# Altium footprint library NewSpeedRadar_Board.PcbLib: 49 footprints (part 3 of 4)
Each footprint in its own frame and in the unit in brackets; x right, y up, seen from the top. Pads: shape width x height; smd on the part's side, far side on the other; paste and mask are expansions set on the pad; w line width, h text height; cw(c..) or ccw(c..) is an arc to the next point about the centre after c.
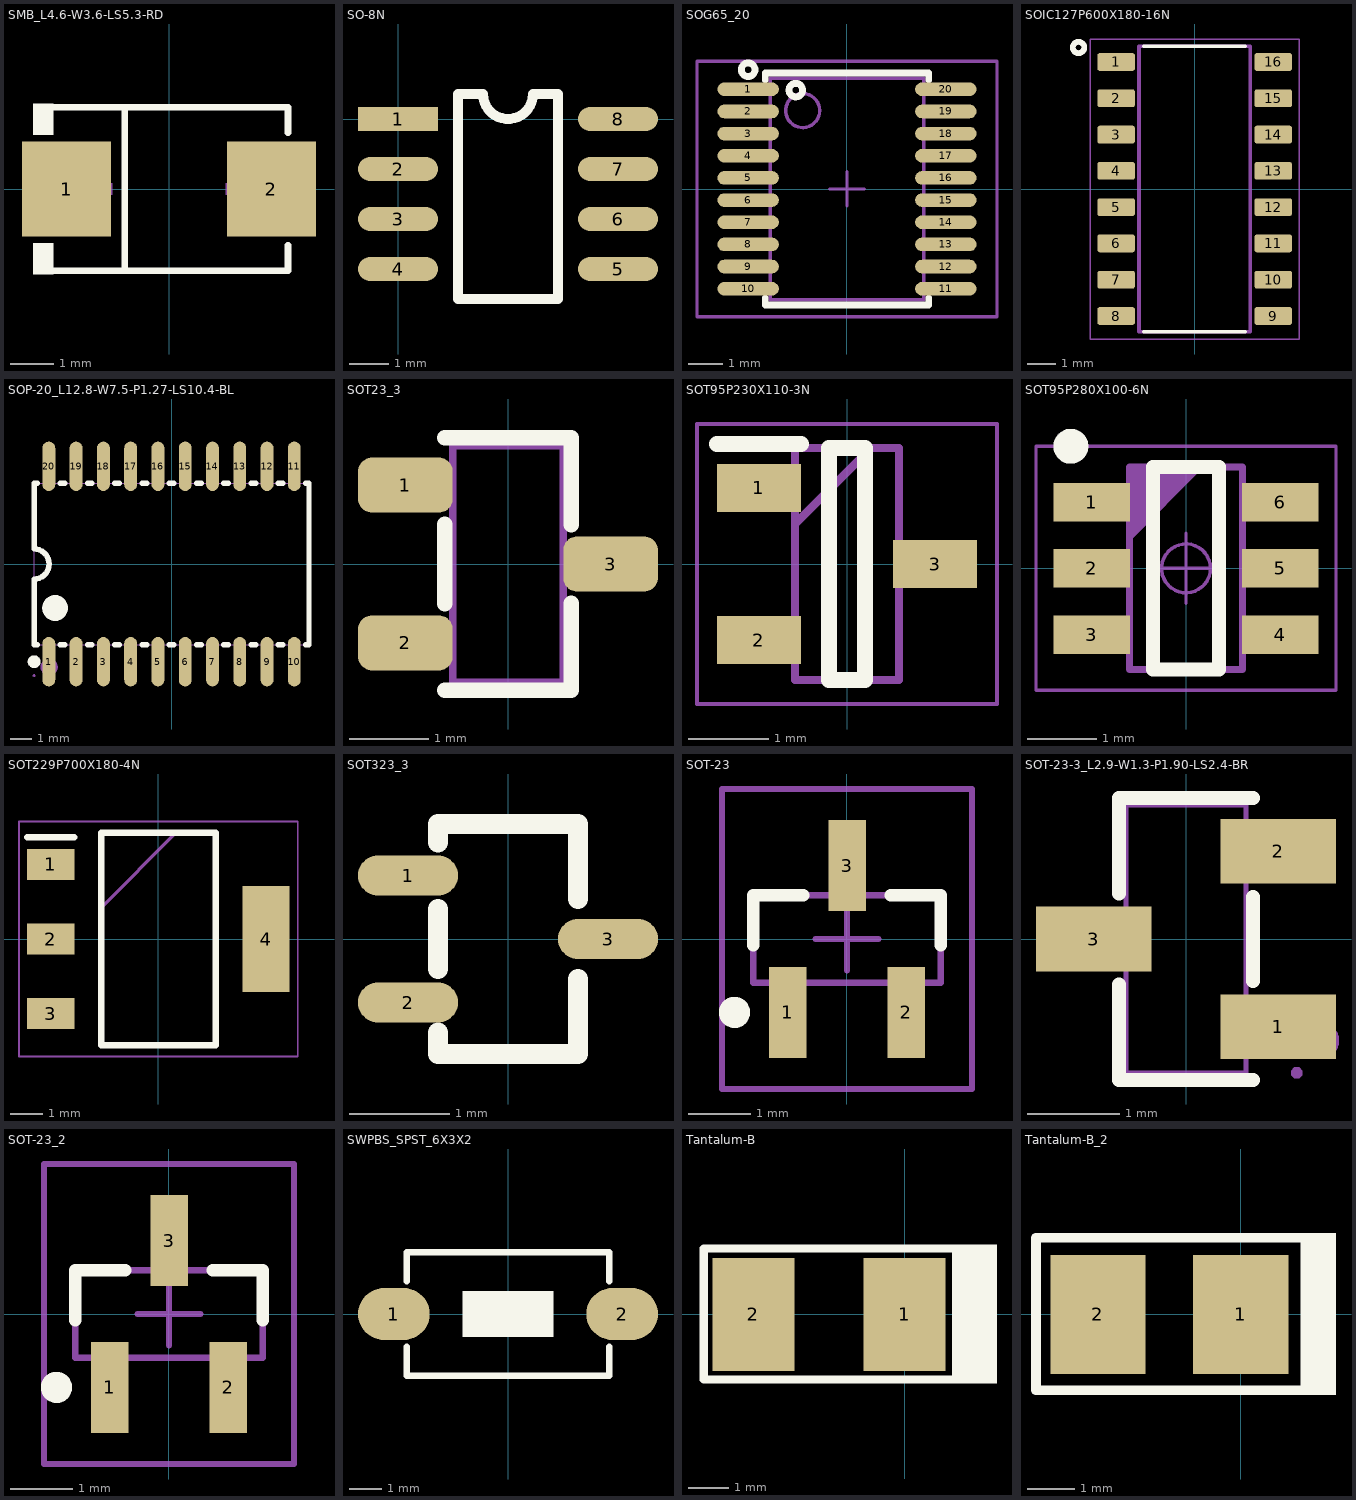
[diagram p2: the footprints below, top view; thin cyan lines are the x and y axes]

## SMB_L4.6-W3.6-LS5.3-RD [mm]
pads (2):
  rect 2.047x2.192 smd paste+0 mask+0.051: 1(-2.361,0) 2(2.361,0)
Top Overlay:
  region: -2.668,1.962 -2.668,1.249 -3.125,1.249 -3.125,1.962
  region: -2.668,-1.962 -2.668,-1.249 -3.125,-1.249 -3.125,-1.962
  lines w0.152: -2.744,-1.886 2.744,-1.886 2.744,-1.299 ; -2.744,1.886 2.744,1.886 2.744,1.299 ; -1.016,-1.886 -1.016,1.886
Mechanical 15:
  region: -2.396,-0.136 -2.396,0.136 -1.31,0.136 -1.31,-0.136
  region: 2.396,-0.136 2.396,0.136 1.31,0.136 1.31,-0.136
  region: 1.989,-0.905 1.989,0.905 1.717,0.905 1.717,-0.905

## SO-8N [mil]
height 197
pads (8):
  rect 80x24 smd: 1(0,0)
  oval 80x24 smd: 2(0,-50) 3(0,-100) 4(0,-150) 5(220,-150) 6(220,-100) 7(220,-50) 8(220,0)
Top Overlay:
  lines w10: 60,-180 160,-180 160,25 135,25 cw(c110,25) 85,25 60,25 60,-180

## SOG65_20 [mm] "PW TSSOP (TI), MO-153-AC (JEDEC), 20Lead, pitch: 0.65mm, 6.5x4.4x1.2mm"
height 1.2
pads (20):
  oval 1.8x0.4 smd mask+0.075: 1(-2.9,2.925) 2(-2.9,2.275) 3(-2.9,1.625) 4(-2.9,0.975) 5(-2.9,0.325) 6(-2.9,-0.325) 7(-2.9,-0.975) 8(-2.9,-1.625) 9(-2.9,-2.275) 10(-2.9,-2.925) 11(2.9,-2.925) 12(2.9,-2.275) 13(2.9,-1.625) 14(2.9,-0.975) 15(2.9,-0.325) 16(2.9,0.325) 17(2.9,0.975) 18(2.9,1.625) 19(2.9,2.275) 20(2.9,2.925)
Top Overlay:
  circle w0.2: c-2.9,3.5 r0.2
  circle w0.2: c-1.5,2.9 r0.2
  lines w0.2: -2.4,-3.2 -2.4,-3.4 2.4,-3.4 2.4,-3.2 ; -2.4,3.2 -2.4,3.4 2.4,3.4 2.4,3.2
Mechanical 13:
  circle w0.1: c-1.3,2.3 r0.5
  lines w0.1: -2.25,-3.25 -2.25,3.25 2.25,3.25 2.25,-3.25 -2.25,-3.25
Mechanical 15:
  lines w0.1: -0.5,0 0.5,0 ; 0,-0.5 0,0.5 ; -4.4,-3.75 -4.4,3.75 4.4,3.75 4.4,-3.75 -4.4,-3.75
3D body "User Library-TSSOP-20-2.STEP": height 1.2, standoff 0, extent -3.2,-3.25 3.2,3.25

## SOIC127P600X180-16N [mm]
height 1.8
pads (16):
  rrect25% 1.31x0.62 smd: 1(-2.75,4.445) 2(-2.75,3.175) 3(-2.75,1.905) 4(-2.75,0.635) 5(-2.75,-0.635) 6(-2.75,-1.905) 7(-2.75,-3.175) 8(-2.75,-4.445) 9(2.75,-4.445) 10(2.75,-3.175) 11(2.75,-1.905) 12(2.75,-0.635) 13(2.75,0.635) 14(2.75,1.905) 15(2.75,3.175) 16(2.75,4.445)
Top Overlay:
  circle w0.2: c-4.064,4.953 r0.2
  lines w0.127: -1.775,-5 1.775,-5 -1.775,-5 ; -1.775,5 1.775,5 -1.775,5
Mechanical 13:
  lines w0.127: -1.95,-5 -1.95,5 1.95,5 1.95,-5 -1.95,-5
Mechanical 15:
  lines w0.05: -3.655,-5.25 3.655,-5.25 3.655,5.25 -3.655,5.25 -3.655,-5.25
3D body "step_temp.STEP": height 1.8, standoff 0, extent -3,-5 3,5

## SOP-20_L12.8-W7.5-P1.27-LS10.4-BL [mm]
height 12.3
pads (20):
  oval 0.6x2.3 smd: 1(-5.715,-4.55) 2(-4.445,-4.55) 3(-3.175,-4.55) 4(-1.905,-4.55) 5(-0.635,-4.55) 6(0.635,-4.55) 7(1.905,-4.55) 8(3.175,-4.55) 9(4.445,-4.55) 10(5.715,-4.55) 11(5.715,4.55) 12(4.445,4.55) 13(3.175,4.55) 14(1.905,4.55) 15(0.635,4.55) 16(-0.635,4.55) 17(-1.905,4.55) 18(-3.175,4.55) 19(-4.445,4.55) 20(-5.715,4.55)
Top Overlay:
  lines w0.254: -6.401,-0.701 ccw(c-6.405,-0.001) -6.4,0.7 -6.4,3.75 -6.246,3.75 ; -6.4,-0.7 -6.4,-3.75 -6.246,-3.75 ; -5.184,-3.75 -4.976,-3.75 ; -5.184,3.75 -4.976,3.75 ; -3.914,-3.75 -3.706,-3.75 ; -3.914,3.75 -3.706,3.75 ; -2.644,-3.75 -2.436,-3.75 ; -2.644,3.75 -2.436,3.75 ; -1.374,-3.75 -1.166,-3.75 ; -1.374,3.75 -1.166,3.75 ; -0.104,-3.75 0.104,-3.75 ; -0.104,3.75 0.104,3.75 ; 1.166,-3.75 1.374,-3.75 ; 1.166,3.75 1.374,3.75 ; 2.436,-3.75 2.644,-3.75 ; 2.436,3.75 2.644,3.75 ; 3.706,-3.75 3.914,-3.75 ; 3.706,3.75 3.914,3.75 ; 4.976,-3.75 5.184,-3.75 ; 4.976,3.75 5.184,3.75 ; 6.246,-3.75 6.4,-3.75 6.4,3.75 6.246,3.75
  lines w0.3: -6.4,-4.4 ccw(c-6.399,-4.55) -6.399,-4.7 ccw(c-6.399,-4.55) -6.397,-4.4
  lines w0.6: -5.425,-1.75 ccw(c-5.423,-2.05) -5.423,-2.35 ccw(c-5.423,-2.05) -5.42,-1.75
Mechanical 6:
  circle w0.4: c-5.7,-4.8 r0.2
Mechanical 15:
  drawing of 45 lines, arcs and shapes, not listed

## SOT23_3 [mm] "SOT-23, Micro3, MO-178, TO-236AB, MO-193C, SuperSOT3, SC-59, 1.5x3mm, Pitch 1.9mm"
height 2
pads (3):
  rrect50% 1.2x0.7 smd paste-0.05 mask+0.1: 1(-1.3,1) 2(-1.3,-1) 3(1.3,0)
Top Overlay:
  lines w0.2: -0.8,-1.6 0.8,-1.6 0.8,-0.5 ; -0.8,-0.5 -0.8,0.5 ; -0.8,1.6 0.8,1.6 0.8,0.5
Mechanical 13:
  lines w0.1: -0.7,-1.5 -0.7,1.5 0.7,1.5 0.7,-1.5 -0.7,-1.5
3D body "User Library-SOT23-2.STEP": height 1.08, standoff 0, extent -1.32,-1.5 1.32,1.5

## SOT95P230X110-3N [mm]
height 1.1
pads (3):
  rect 1.05x0.6 smd: 1(-1.1,0.95) 2(-1.1,-0.95) 3(1.1,0)
Top Overlay:
  lines w0.2: -1.625,1.5 -0.575,1.5 ; -0.225,-1.45 -0.225,1.45 0.225,1.45 0.225,-1.45 -0.225,-1.45
Mechanical 13:
  lines w0.1: -0.65,0.5 0.3,1.45 ; -0.65,-1.45 -0.65,1.45 0.65,1.45 0.65,-1.45 -0.65,-1.45
Mechanical 15:
  lines w0.05: -1.875,-1.75 -1.875,1.75 1.875,1.75 1.875,-1.75 -1.875,-1.75
3D body "BC807-40,215.stp": height 0.95, standoff 0, extent -1.201,-1.448 1.199,1.452

## SOT95P280X100-6N [mm] "SOT23, 0.95mm pitch; 6 pin, 1.625mm W X 2.90mm L X 1.00mm H body, IPC Medium Density"
height 1
pads (6):
  rect 1.1x0.55 smd: 1(-1.35,0.95) 2(-1.35,0) 3(-1.35,-0.95) 4(1.35,-0.95) 5(1.35,0) 6(1.35,0.95)
Top Overlay:
  circle w0.25: c-1.65,1.75 r0.125
  lines w0.2: -0.475,-1.45 0.475,-1.45 0.475,1.45 -0.475,1.45 -0.475,-1.45
Top Assembly:
  lines w0.1: -0.812,0.45 0.188,1.45 ; -0.812,0.55 0.088,1.45 ; -0.812,0.65 -0.012,1.45 ; -0.812,0.75 -0.112,1.45 ; -0.812,0.85 -0.212,1.45 ; -0.812,0.95 -0.312,1.45 ; -0.812,1.05 -0.412,1.45 ; -0.812,1.15 -0.512,1.45 ; -0.812,1.25 -0.612,1.45 ; -0.812,1.35 -0.712,1.45 ; -0.812,-1.45 0.812,-1.45 0.812,1.45 -0.812,1.45 -0.812,-1.45
Mechanical 15:
  circle w0.05: c0,0 r0.35
  lines w0.05: -0.5,0 0.5,0 ; 0,-0.5 0,0.5 ; -2.15,-1.75 2.15,-1.75 2.15,1.75 -2.15,1.75 -2.15,-1.75
3D body "SOT95P280X100-6N.stp": height 1, standoff 0, extent -1.4,-1.5 1.4,1.5

## SOT229P700X180-4N [mm]
height 6.8
pads (4):
  rect 1.45x0.95 smd: 1(-3.3,2.29) 2(-3.3,0) 3(-3.3,-2.29)
  rect 1.45x3.25 smd: 4(3.3,0)
Top Overlay:
  lines w0.2: -4.025,3.115 -2.575,3.115 ; -1.752,-3.252 -1.752,3.252 1.752,3.252 1.752,-3.252 -1.752,-3.252
Mechanical 13:
  lines w0.1: -1.752,0.962 0.538,3.252 ; -1.752,-3.252 -1.752,3.252 1.752,3.252 1.752,-3.252 -1.752,-3.252
Mechanical 15:
  lines w0.05: -4.275,-3.605 -4.275,3.605 4.275,3.605 4.275,-3.605 -4.275,-3.605
3D body "AMS1117-3.3.stp": height 1.8, standoff 0, extent -3.355,-3.15 3.355,3.15

## SOT323_3 [mm] "SOT323, SC-70/SC70-3L, DCK, SSOT, MO-203, 2X1.25mm, 1.27mm pitch"
height 1.1
pads (3):
  oval 1x0.4 smd: 1(-1,0.635) 2(-1,-0.635) 3(1,0)
Top Overlay:
  lines w0.2: -0.7,-0.935 -0.7,-1.15 0.7,-1.15 0.7,-0.4 ; -0.7,-0.3 -0.7,0.3 ; -0.7,0.965 -0.7,1.15 0.7,1.15 0.7,0.4
3D body "User Library-sc70-3.step": height 1, standoff 0, extent -1.15,-1.05 1.15,1.05

## SOT-23 [mm]
height 7.62
pads (3):
  rect 0.6x1.45 smd: 1(-0.95,-1.175) 2(0.95,-1.175) 3(0,1.175)
Top Overlay:
  circle w0.25: c-1.8,-1.175 r0.125
  lines w0.2: -1.5,-0.1 -1.5,0.7 -0.7,0.7 ; 0.7,0.7 1.5,0.7 1.5,-0.1
Mechanical 13:
  lines w0.1: -1.5,-0.7 1.5,-0.7 1.5,0.7 -1.5,0.7 -1.5,-0.7
Mechanical 15:
  lines w0.1: -0.5,0 0.5,0 ; 0,-0.5 0,0.5 ; -2,-2.4 2,-2.4 2,2.4 -2,2.4 -2,-2.4
3D body "User Library-N-MOS_BSS123_SOT23.STEP": height 1, standoff 0, extent -1.45,-1.225 1.45,1.075

## SOT-23-3_L2.9-W1.3-P1.90-LS2.4-BR [mm]
pads (3):
  rect 1.25x0.7 smd: 1(1,-0.95) 2(1,0.95) 3(-1,0)
Top Overlay:
  lines w0.152: -0.726,-0.495 -0.726,-1.526 0.726,-1.526 ; -0.726,0.495 -0.726,1.526 0.726,1.526 ; 0.726,-0.455 0.726,0.455
Mechanical 6:
  circle w0.2: c1.46,-1.1 r0.1
Mechanical 15:
  region: 1.26,-1.45 1.26,-1.475 1.225,-1.51 1.175,-1.51 1.14,-1.475 1.14,-1.45 1.14,-1.425 1.175,-1.39 1.225,-1.39 1.26,-1.425 1.26,-1.45
  region: 0.64,0.735 0.64,1.165 0.91,1.165 0.91,0.735
  region: 0.9,0.735 0.9,1.165 1.2,1.165 1.2,0.735
  region: 0.64,-1.165 0.64,-0.735 0.91,-0.735 0.91,-1.165
  region: 0.9,-1.165 0.9,-0.735 1.2,-0.735 1.2,-1.165
  region: -0.91,-0.215 -0.91,0.215 -0.64,0.215 -0.64,-0.215
  region: -1.2,-0.215 -1.2,0.215 -0.9,0.215 -0.9,-0.215
  lines w0.051: -0.65,-1.45 -0.65,1.45 0.65,1.45 0.65,-1.45 -0.65,-1.45

## SOT-23_2 [mm]
pads (3):
  rect 0.6x1.45 smd: 1(-0.95,-1.175) 2(0.95,-1.175) 3(0,1.175)
Top Overlay:
  circle w0.25: c-1.8,-1.175 r0.125
  lines w0.2: -1.5,-0.1 -1.5,0.7 -0.7,0.7 ; 0.7,0.7 1.5,0.7 1.5,-0.1
Mechanical 13:
  lines w0.1: -1.5,-0.7 1.5,-0.7 1.5,0.7 -1.5,0.7 -1.5,-0.7
Mechanical 15:
  lines w0.1: -0.5,0 0.5,0 ; 0,-0.5 0,0.5 ; -2,-2.4 2,-2.4 2,2.4 -2,2.4 -2,-2.4
3D body "User Library-N-MOS_BSS123_SOT23.STEP": height 1, standoff 0, extent -1.45,-1.225 1.45,1.075

## SWPBS_SPST_6X3X2 [mm] "SWITCH, PUSHBUTTON, SMD, SPST, 6X3.5X2.5mm, RS-282G05A3, SKQYPA, 50000 Cycles"
height 5
pads (2):
  oval 2.2x1.6 smd mask+0.1: 1(-3.5,0) 2(3.5,0)
Top Overlay:
  region: 1.4,0.7 -1.4,0.7 -1.4,-0.7 1.4,-0.7
  lines w0.2: -3.1,-1 -3.1,-1.9 3.1,-1.9 3.1,-1 ; -3.1,1 -3.1,1.9 3.1,1.9 3.1,1
3D body "SKQYPA_43452.stp": height 2.5, standoff 0, extent -3.397,-1.858 3.397,1.859

## Tantalum-B [mm]
height 6.8
pads (2):
  rect 2x2.75 smd: 1(0,0) 2(-3.69,0)
Top Overlay:
  rectangle: 1.155,-1.69 2.255,1.71
  lines w0.2: 2.005,-1.59 -2.545,-1.59 -4.9,-1.59 -4.9,1.61 -3.145,1.61 1.355,1.61 2.005,1.61
3D body "User Library-Tantalum Capacitor Case B.STEP": height 2.09, standoff -0.01, extent -3.69,-1.41 0,1.41

## Tantalum-B_2 [mm]
pads (2):
  rect 2x2.5 smd: 1(0,0) 2(-3,0)
Top Overlay:
  rectangle: 1.255,-1.69 2,1.71
  lines w0.2: 1.355,1.61 -3.145,1.61 -4.3,1.61 -4.3,-1.59 -2.545,-1.59 1.9,-1.59
Mechanical 13:
  text ".Designator" at -4.514,-0.7 h0.9
3D body "User Library-Tantalum Capacitor Case B.STEP": height 2.09, standoff -0.01, extent -3.39,-1.41 0.3,1.41